# Altium integrated library 大三_实训作业_智能家居控制.IntLib: 25 symbols
Pins are listed as number, name and electrical type; pins without a type are passive.

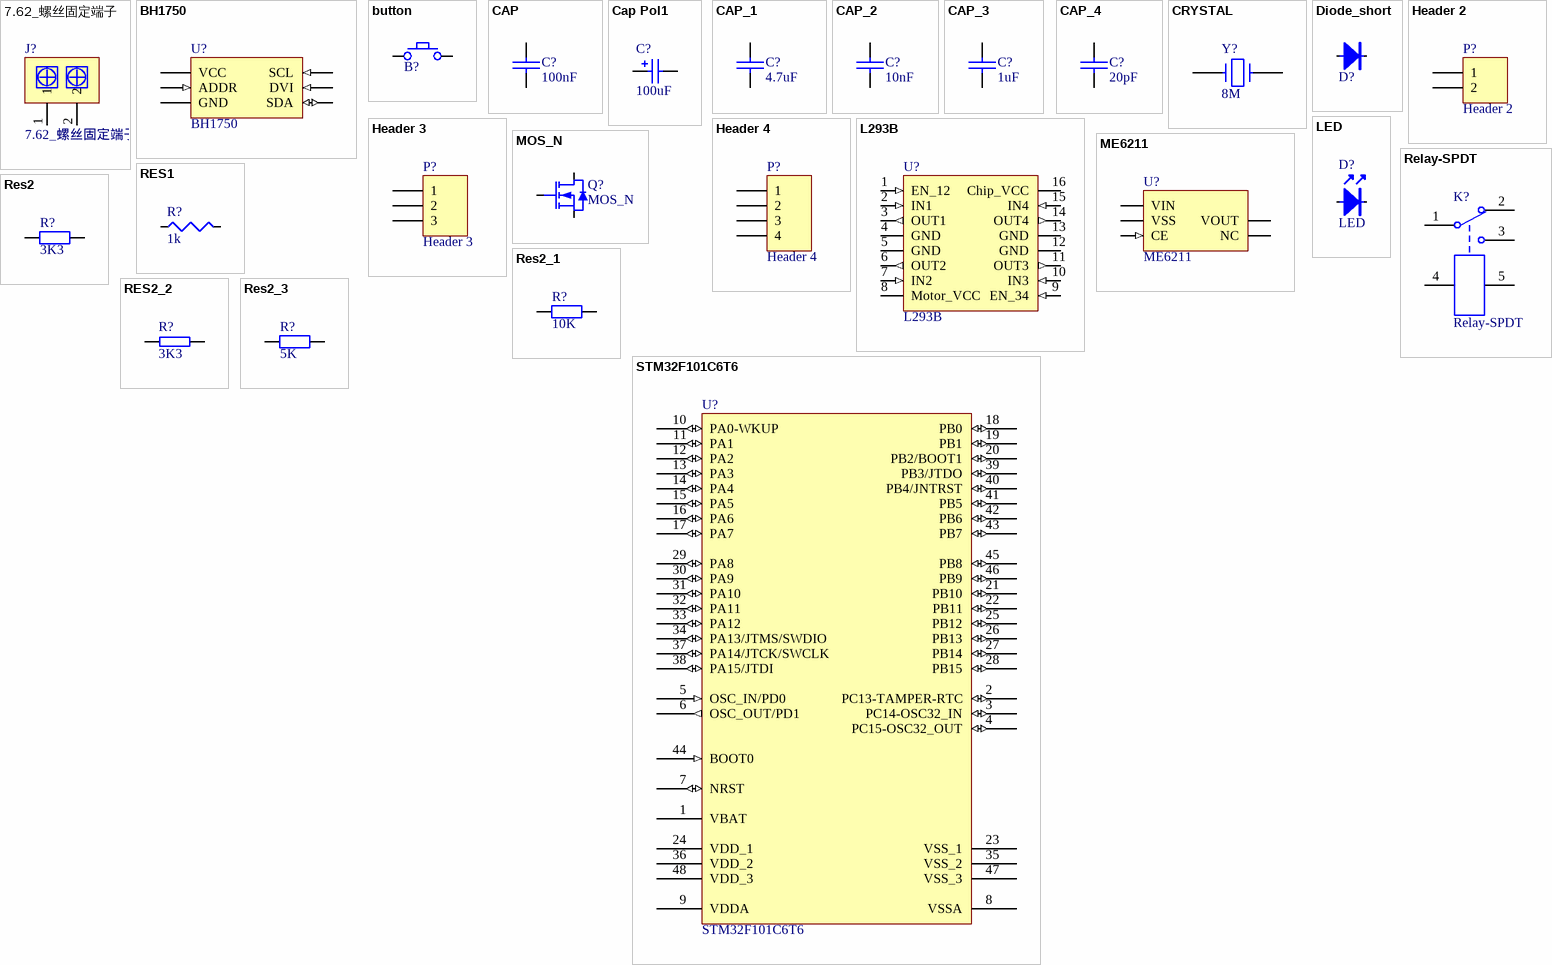
[diagram p0: symbols 7.62_螺丝固定端子 to STM32F101C6T6]

## 7.62_螺丝固定端子
designator J?
footprint 7.62螺丝端子座
pins: 1, 2

## BH1750
designator U?
footprint BH1750
pins: 1 VCC (power), 2 ADDR (in), 3 GND (power), 4 SDA (io), 5 DVI (in), 6 SCL (in)

## button
designator B?  (value not drawn)
footprint switch_2P
pins: 1, 2

## CAP
designator C?, comment 100nF
电容
footprint 0402 (Footprint not found)
footprint 0603
pins: 1, 2

## Cap Pol1
designator C?, comment 100uF
Polarized Capacitor (Radial); Published: 8-Jun-2000; LatestRevisionDate: 17-Jul-2002; LatestRevisionNote: Re-released for DXP Platform.; PackageReference: RB7.6-15; Publisher: Altium Limited; PackageDescription: Polarized Capacitor (Radial); 2 Leads; Value: 100uF
footprint RB7.6-15 (Polarized Capacitor (Radial); 2 Leads)
simulation model CAP (Capacitor)
signal-integrity model Cap Pol
footprint CAP_5_10mm (极性电容_引脚间距5mm_直径10mm)
footprint CAP_3.5_8mm (电容_引脚间距3.5mm_直径8mm)
pins: 1, 2
1 alternate drawing of the same symbol

## CAP_1
designator C?, comment 4.7uF
电容
footprint 0603
pins: 1, 2

## CAP_2
designator C?, comment 10nF
电容
footprint 0603
pins: 1, 2

## CAP_3
designator C?, comment 1uF
电容
footprint 0603
pins: 1, 2

## CAP_4
designator C?, comment 20pF
电容
footprint 0805 (Footprint not found)
footprint 1206 (Footprint not found)
footprint 0603
pins: 1, 2

## CRYSTAL
designator Y?, comment 8M
晶体谐振器
footprint XTAL1
footprint 5032
pins: 1, 2

## Diode_short
designator D?  (value not drawn)
footprint SOD_123
pins: 1, 2

## Header 2
designator P?
Header, 2-Pin; LatestRevisionDate: 17-Jul-2002; LatestRevisionNote: Re-released for DXP Platform.; Publisher: Altium Limited
footprint HDR1X2 (Connector; Header; 2 Position)
signal-integrity model Connector
footprint 2P_螺钉式接线端子_5.08mm
pins: 1, 2

## Header 3
designator P?
Header, 3-Pin; LatestRevisionDate: 17-Jul-2002; LatestRevisionNote: Re-released for DXP Platform.; Publisher: Altium Limited
footprint HDR1X3 (Connector; Header; 3 Position)
signal-integrity model Connector
pins: 1, 2, 3

## Header 4
designator P?
Header, 4-Pin; LatestRevisionDate: 17-Jul-2002; LatestRevisionNote: Re-released for DXP Platform.; Publisher: Altium Limited
footprint HDR1X4 (Connector; Header; 4 Position)
signal-integrity model Connector
pins: 1, 2, 3, 4

## L293B
designator U?
4路电机驱动器
footprint DIP16
pins: 1 EN_12 (in), 2 IN1 (in), 3 OUT1 (out), 4 GND (power), 5 GND (power), 6 OUT2 (out), 7 IN2 (in), 8 Motor_VCC (power), 9 EN_34 (in), 10 IN3 (in), 11 OUT3 (out), 12 GND (power), 13 GND (power), 14 OUT4 (out), 15 IN4 (in), 16 Chip_VCC (power)

## LED
designator D?
footprint 0603-led
pins: 1, 2

## ME6211
designator U?
footprint SOT-23-5
pins: 1 VIN (power), 2 VSS (power), 3 CE (in), 4 NC, 5 VOUT (power)

## MOS_N
designator Q?
footprint SOT-23
pins: 1 G, 2 S, 3 D

## Relay-SPDT
designator K?
Single-Pole Dual-Throw Relay; Published: 24-Mar-1999; LatestRevisionDate: 17-Jul-2002; LatestRevisionNote: Re-released for DXP Platform.; PackageReference: MODULE5B; Publisher: Altium Limited
footprint MODULE5B (DIP; 5 Round Pins; Row Space 15.24 mm; Pitch 2.54 mm)
simulation model SPDTRELAY (Spice Subcircuit)
footprint relay_5pin
pins: 1, 2, 3, 4, 5

## RES1
designator R?, comment 1k
footprint AXIAL0.2
footprint AXIAL0.3
footprint 08005 (Footprint not found)
footprint 0805
footprint 0603
pins: 1, 2

## Res2
designator R?, comment 3K3
Resistor; Value: 1K; Published: 8-Jun-2000; LatestRevisionDate: 17-Jul-2002; LatestRevisionNote: Re-released for DXP Platform.; PackageReference: AXIAL-0.4; Publisher: Altium Limited; PackageDescription: Axial Device, Thru-Hole; 2 Leads; 0.4 in Pin Spacing
simulation model RESISTOR (Resistor)
signal-integrity model Res
footprint 0603
pins: 1, 2

## Res2_1
designator R?, comment 10K
Resistor; Value: 1K; Published: 8-Jun-2000; LatestRevisionDate: 17-Jul-2002; LatestRevisionNote: Re-released for DXP Platform.; PackageReference: AXIAL-0.4; Publisher: Altium Limited; PackageDescription: Axial Device, Thru-Hole; 2 Leads; 0.4 in Pin Spacing
simulation model RESISTOR (Resistor)
signal-integrity model Res
footprint 0603
pins: 1, 2

## RES2_2
designator R?, comment 3K3
footprint 0603
pins: 1, 2

## Res2_3
designator R?, comment 5K
Resistor; Value: 1K; Published: 8-Jun-2000; LatestRevisionDate: 17-Jul-2002; LatestRevisionNote: Re-released for DXP Platform.; PackageReference: AXIAL-0.4; Publisher: Altium Limited; PackageDescription: Axial Device, Thru-Hole; 2 Leads; 0.4 in Pin Spacing
simulation model RESISTOR (Resistor)
signal-integrity model Res
footprint 0603
pins: 1, 2

## STM32F101C6T6
designator U?
STM32 ARM-based 32-bit MCU with 32 Kbytes Flash, 48-pin LQFP, Industrial Temperature; Published: 30-May-2008; DatasheetVersion: rev6, Mar-2008; PackageVersion: Mar-2008; PackageReference: LQFP48; Publisher: Altium Limited; PackageDescription: 48-Pin Low-Profile Quad Flat Pack, 7 x 7 mm Body, 0.5 mm Pitch (LQFP48); ComponentLink1Description: Manufacturer Link; ComponentLink1URL: www.st.com/stm32; ComponentLink2Description: Datasheet; ComponentLink2URL: http://www.st.com/stonline/products/literature/ds/13586.pdf
footprint LQFP48_N (Thin QFP, 48-Leads, Body 7x7mm, Pitch 0.5mm, IPC Medium Density)
footprint LQFP48_L (Thin QFP, 48-Leads, Body 7x7mm, Pitch 0.5mm, IPC High Density)
footprint LQFP48_M (Thin QFP, 48-Leads, Body 7x7mm, Pitch 0.5mm, IPC Low Density)
pins: 1 VBAT (power), 2 PC13-TAMPER-RTC (io), 3 PC14-OSC32_IN (io), 4 PC15-OSC32_OUT (io), 5 OSC_IN/PD0 (in), 6 OSC_OUT/PD1 (out), 7 NRST (io), 8 VSSA (power), 9 VDDA (power), 10 PA0-WKUP (io), 11 PA1 (io), 12 PA2 (io), 13 PA3 (io), 14 PA4 (io), 15 PA5 (io), 16 PA6 (io), 17 PA7 (io), 18 PB0 (io), 19 PB1 (io), 20 PB2/BOOT1 (io), 21 PB10 (io), 22 PB11 (io), 23 VSS_1 (power), 24 VDD_1 (power), 25 PB12 (io), 26 PB13 (io), 27 PB14 (io), 28 PB15 (io), 29 PA8 (io), 30 PA9 (io), 31 PA10 (io), 32 PA11 (io), 33 PA12 (io), 34 PA13/JTMS/SWDIO (io), 35 VSS_2 (power), 36 VDD_2 (power), 37 PA14/JTCK/SWCLK (io), 38 PA15/JTDI (io), 39 PB3/JTDO (io), 40 PB4/JNTRST (io), 41 PB5 (io), 42 PB6 (io), 43 PB7 (io), 44 BOOT0 (in), 45 PB8 (io), 46 PB9 (io), 47 VSS_3 (power), 48 VDD_3 (power)